# Altium footprint library Loggerhead.PcbLib: 40 footprints (part 3 of 3)
Each footprint in its own frame and in the unit in brackets; x right, y up, seen from the top. Pads: shape width x height; smd on the part's side, far side on the other; paste and mask are expansions set on the pad; w line width, h text height; cw(c..) or ccw(c..) is an arc to the next point about the centre after c.
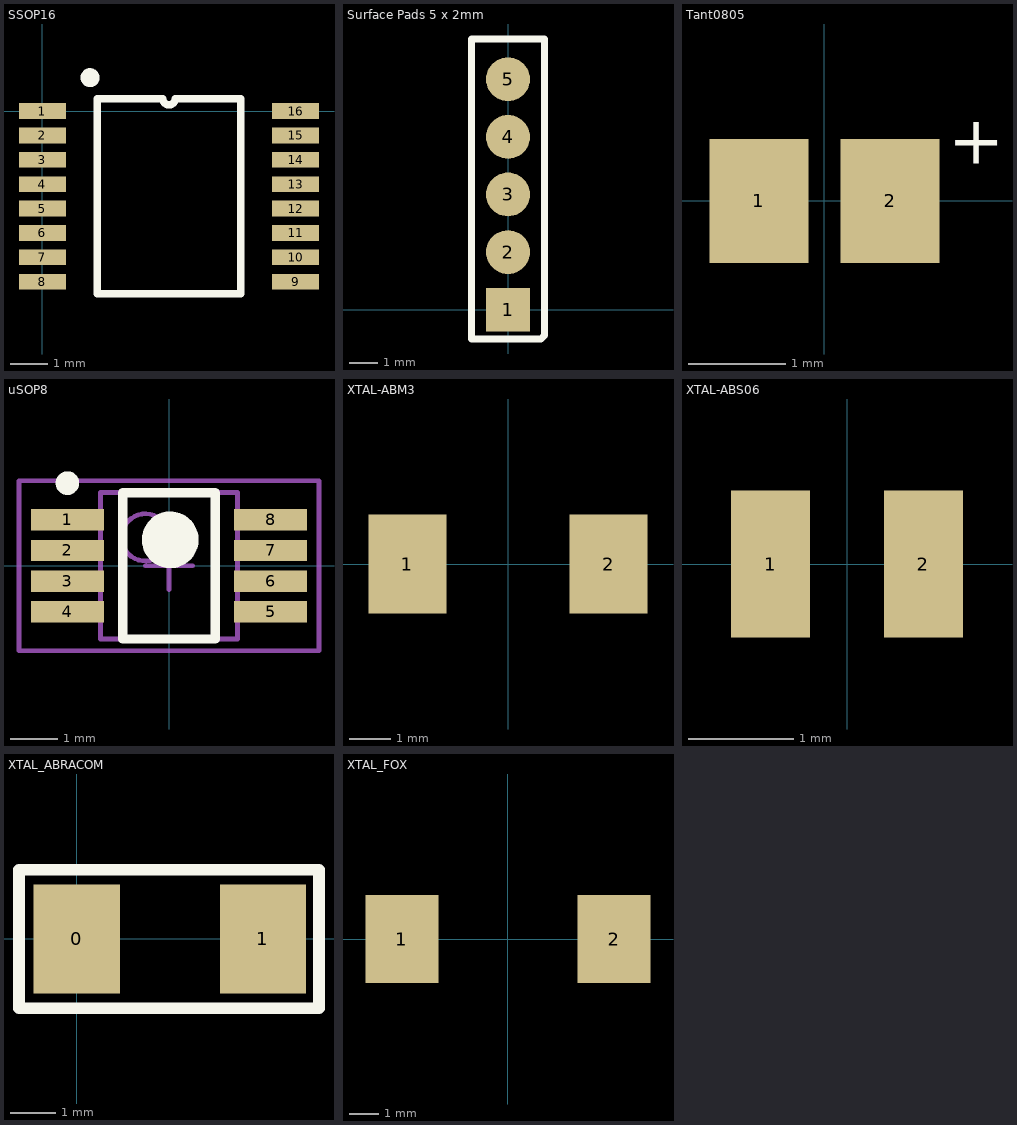
[diagram p2: the footprints below, top view; thin cyan lines are the x and y axes]

## SSOP16 [mm]
pads (16):
  rect 1.25x0.42 smd: 1(0,0) 2(0,-0.65) 3(0,-1.3) 4(0,-1.95) 5(0,-2.6) 6(0,-3.25) 7(0,-3.9) 8(0,-4.55) 9(6.75,-4.55) 10(6.75,-3.9) 11(6.75,-3.25) 12(6.75,-2.6) 13(6.75,-1.95) 14(6.75,-1.3) 15(6.75,-0.65) 16(6.75,0)
Top Overlay:
  circle w0.254: c1.27,0.889 r0.127
  lines w0.2: 1.46,-4.875 1.46,0.325 3.213,0.325 ccw(c3.375,0.325) 3.537,0.325 5.29,0.325 5.29,-4.875 1.46,-4.875

## Surface Pads 5 x 2mm [mil]
pads (5):
  rect 60x60 smd: 1(0,0.04)
  round 60 smd: 2(0,78.78) 3(0,157.52) 4(0,236.26) 5(0,315)
Top Overlay:
  lines w10: -50,-40 -50,370 50,370 50,-35 45,-40 -50,-40

## Tant0805 [mil]
pads (2):
  rect 40x50 smd: 1(-26.5,0) 2(26.5,0)
Top Overlay:
  text "+" at 50,15 h19.68

## uSOP8 [mm]
height 1.1
pads (8):
  rect 1.55x0.45 smd: 1(-2.15,0.975) 2(-2.15,0.325) 3(-2.15,-0.325) 4(-2.15,-0.975) 5(2.15,-0.975) 6(2.15,-0.325) 7(2.15,0.325) 8(2.15,0.975)
Top Overlay:
  circle w0.25: c-2.15,1.75 r0.125
  circle w0.6: c0.025,0.55 r0.3
  lines w0.2: -0.975,-1.55 -0.975,1.55 0.975,1.55 0.975,-1.55 -0.975,-1.55
Mechanical 13:
  circle w0.1: c-0.5,0.6 r0.5
  lines w0.1: -1.45,-1.55 -1.45,1.55 1.45,1.55 1.45,-1.55 -1.45,-1.55
Mechanical 15:
  lines w0.1: -0.5,0 0.5,0 ; 0,-0.5 0,0.5 ; -3.175,-1.8 -3.175,1.8 3.175,1.8 3.175,-1.8 -3.175,-1.8
3D body: height 1.1, standoff 0.05, extent -1.45,-1.55 1.45,1.55

## XTAL-ABM3 [mm]
pads (2):
  rect 1.9x2.4 smd: 1(-2.45,0) 2(2.45,0)

## XTAL-ABS06 [mm]
pads (2):
  rect 0.75x1.4 smd: 1(-0.725,0) 2(0.725,0)

## XTAL_ABRACOM [mm]
pads (2):
  rect 1.9x2.4 smd: 0(0,0) 1(4.1,0)
Top Overlay:
  lines w0.254: -1.27,-1.524 -1.27,1.524 5.334,1.524 5.334,-1.524 -1.27,-1.524

## XTAL_FOX [mm]
height 1.7
pads (2):
  rect 2.5x3 smd: 1(-3.625,0) 2(3.625,0)